# Altium footprint library Raspberry_Pi_Pico.PcbLib: 1 footprints
Each footprint in its own frame and in the unit in brackets; x right, y up, seen from the top. Pads: shape width x height; smd on the part's side, far side on the other; paste and mask are expansions set on the pad; w line width, h text height; cw(c..) or ccw(c..) is an arc to the next point about the centre after c.
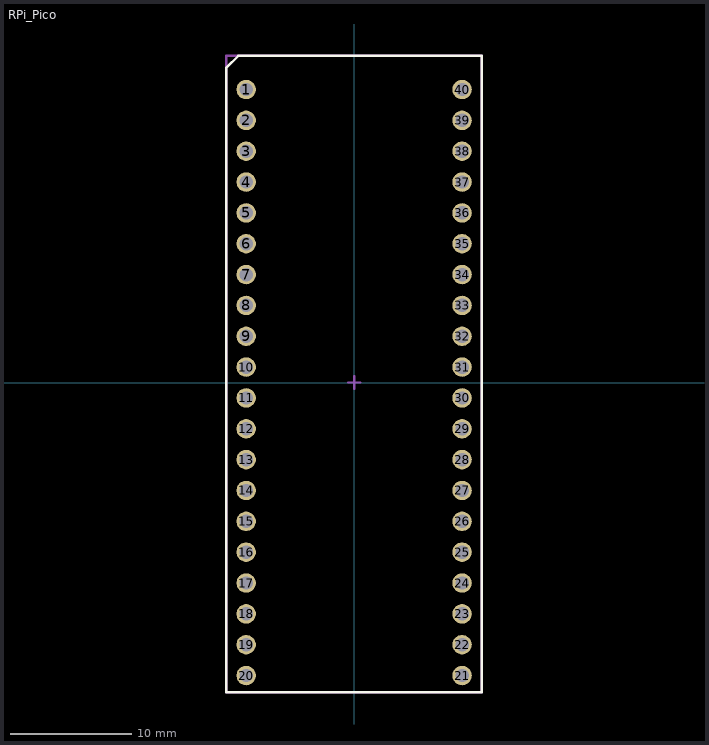
[diagram p0: the footprint, top view; thin cyan lines are the x and y axes]

## RPi_Pico [mm]
pads (40):
  round 1.6 hole 1.1: 1(-8.89,24.13) 2(-8.89,21.59) 3(-8.89,19.05) 4(-8.89,16.51) 5(-8.89,13.97) 6(-8.89,11.43) 7(-8.89,8.89) 8(-8.89,6.35) 9(-8.89,3.81) 10(-8.89,1.27) 11(-8.89,-1.27) 12(-8.89,-3.81) 13(-8.89,-6.35) 14(-8.89,-8.89) 15(-8.89,-11.43) 16(-8.89,-13.97) 17(-8.89,-16.51) 18(-8.89,-19.05) 19(-8.89,-21.59) 20(-8.89,-24.13) 21(8.89,-24.13) 22(8.89,-21.59) 23(8.89,-19.05) 24(8.89,-16.51) 25(8.89,-13.97) 26(8.89,-11.43) 27(8.89,-8.89) 28(8.89,-6.35) 29(8.89,-3.81) 30(8.89,-1.27) 31(8.89,1.27) 32(8.89,3.81) 33(8.89,6.35) 34(8.89,8.89) 35(8.89,11.43) 36(8.89,13.97) 37(8.89,16.51) 38(8.89,19.05) 39(8.89,21.59) 40(8.89,24.13)
Top Overlay:
  lines w0.2: -10.52,-25.5 10.5,-25.5 10.5,26.905 -9.545,26.905 -10.52,25.93 -10.52,-25.5
Top Assembly:
  lines w0.2: -10.52,-25.5 10.5,-25.5 10.5,26.905 -10.52,26.905 -10.52,-25.5
  text "'.Designator'" at -4.532,-0.333 h0.8
Mechanical 15:
  lines w0.2: -0.5,0 0.5,0 ; 0,-0.5 0,0.5 ; -10.52,-25.5 10.5,-25.5 10.5,26.905 -10.52,26.905 -10.52,-25.5
3D body "pin_header_aw_108_20-t.stp": height 9.4, standoff -3, extent 7.645,-25.3 10.141,25.5
3D body "pin_header_aw_108_20-t.stp": height 9.4, standoff -3, extent -10.135,-25.3 -7.639,25.5
3D body "Raspberry Pi Pico-R3.STEP": height 5.19, standoff 1.5, extent -10.5,-25.5 10.5,26.926